# Altium footprint library Capasitors.PcbLib: 66 footprints (part 4 of 5)
Each footprint in its own frame and in the unit in brackets; x right, y up, seen from the top. Pads: shape width x height; smd on the part's side, far side on the other; paste and mask are expansions set on the pad; w line width, h text height; cw(c..) or ccw(c..) is an arc to the next point about the centre after c.
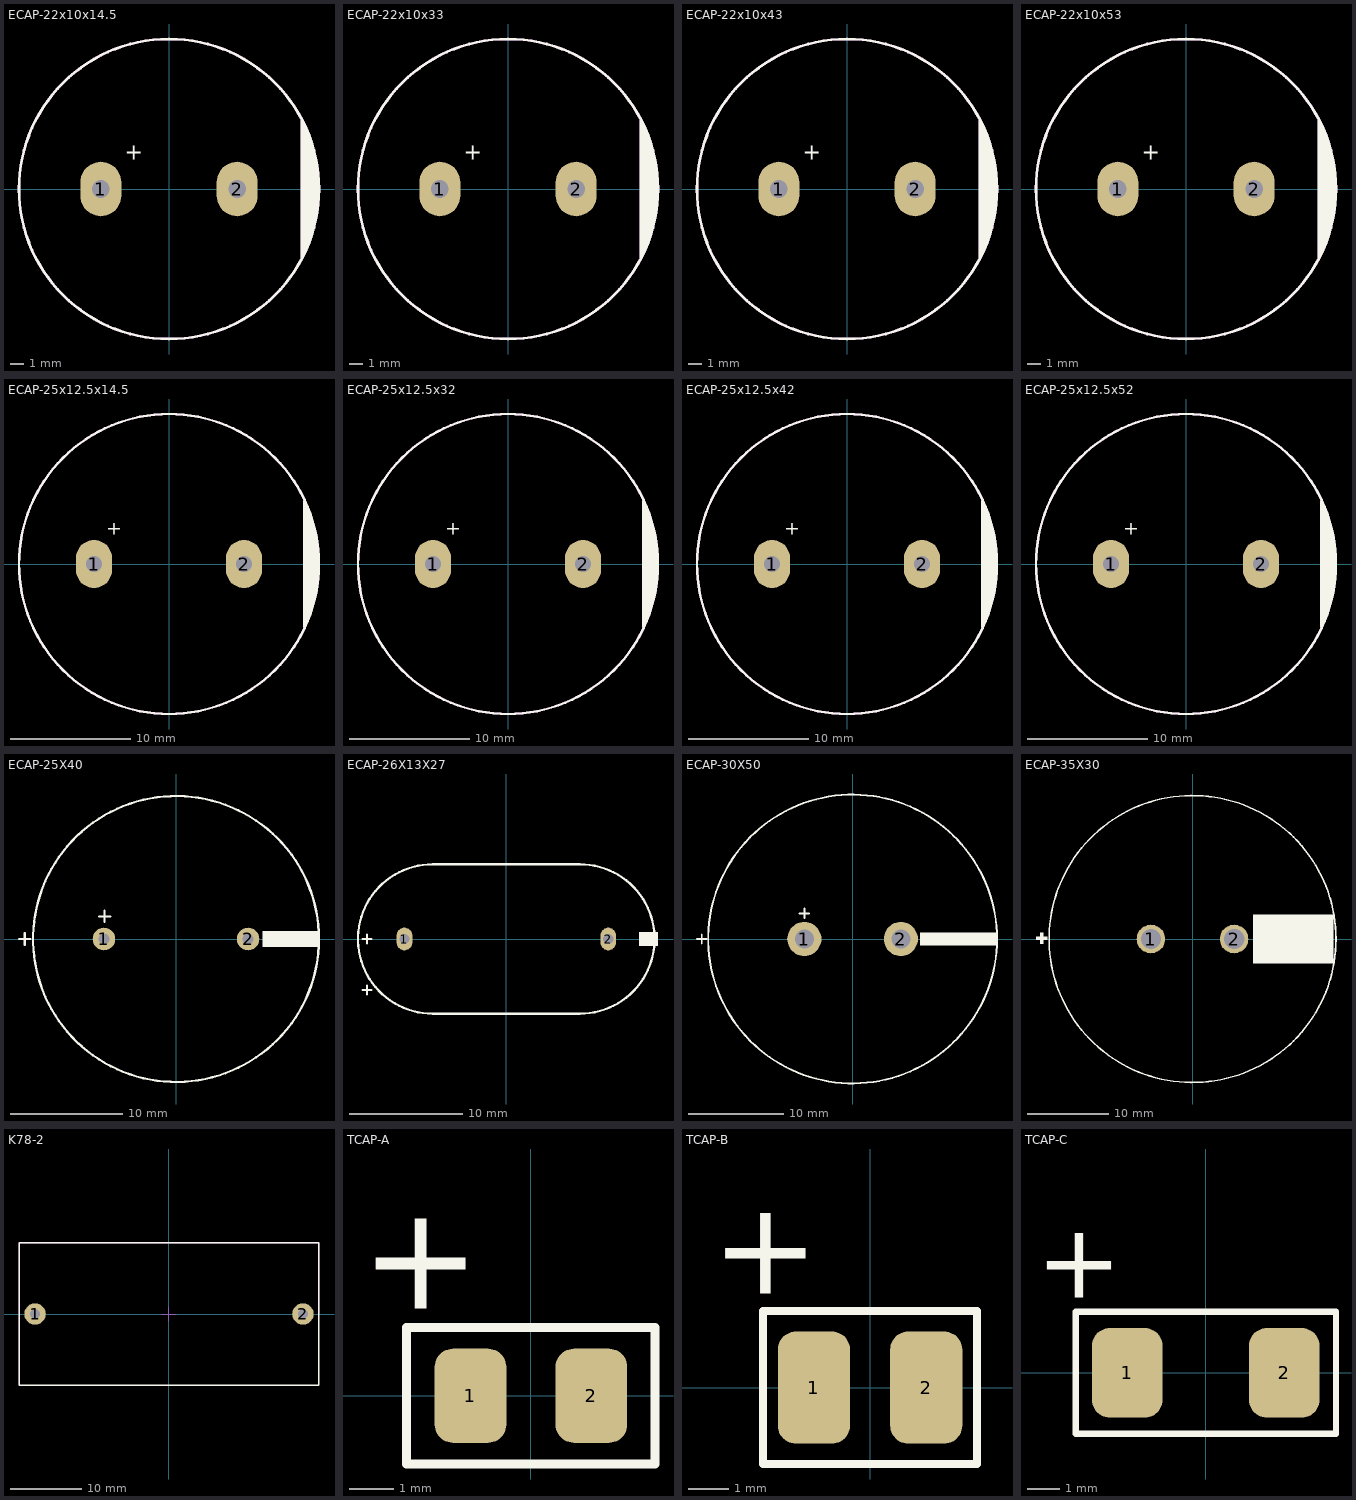
[diagram p3: the footprints below, top view; thin cyan lines are the x and y axes]

## ECAP-22x10x14.5 [mm] "16MM Diameter, 7.5MM Lead Spacing Aluminium Capacitor"
height 14.5
pads (2):
  oval 3x4 hole 1.3: 1(-5,0) 2(5,0)
Top Overlay:
  circle w0.2: c0,0 r11
  region: 9.75,-5 9.75,5 10.75,2.5 11,1 11,0 11,-1 10.5,-3.25
  lines w0.2: 9.75,-5 9.75,5
  text "+" at -3.25,1.75 h2
Mechanical 13:
  circle w0.2: c0,0 r11
  lines w0.2: 9.75,-5 9.75,5
3D body "CAP ALTH D-22MM L-10MM H-14.5MM.STEP": height 14.7, standoff -3, extent -11,-11 11,11

## ECAP-22x10x33 [mm] "16MM Diameter, 7.5MM Lead Spacing Aluminium Capacitor"
height 33
pads (2):
  oval 3x4 hole 1.3: 1(-5,0) 2(5,0)
Top Overlay:
  circle w0.2: c0,0 r11
  region: 9.75,-5 9.75,5 10.75,2.5 11,1 11,0 11,-1 10.5,-3.25
  lines w0.2: 9.75,-5 9.75,5
  text "+" at -3.25,1.75 h2
Mechanical 13:
  circle w0.2: c0,0 r11
  lines w0.2: 9.75,-5 9.75,5
3D body "CAP ALTH D-22MM L-10MM H-33MM.STEP": height 33.2, standoff -3, extent -11,-10.995 11,10.995

## ECAP-22x10x43 [mm] "16MM Diameter, 7.5MM Lead Spacing Aluminium Capacitor"
height 43
pads (2):
  oval 3x4 hole 1.3: 1(-5,0) 2(5,0)
Top Overlay:
  circle w0.2: c0,0 r11
  region: 9.75,-5 9.75,5 10.75,2.5 11,1 11,0 11,-1 10.5,-3.25
  lines w0.2: 9.75,-5 9.75,5
  text "+" at -3.25,1.75 h2
Mechanical 13:
  circle w0.2: c0,0 r11
  lines w0.2: 9.75,-5 9.75,5
3D body "CAP ALTH D-22MM L-10MM H-43MM.STEP": height 43.2, standoff -3, extent -11,-10.999 11,10.999

## ECAP-22x10x53 [mm] "16MM Diameter, 7.5MM Lead Spacing Aluminium Capacitor"
height 53
pads (2):
  oval 3x4 hole 1.3: 1(-5,0) 2(5,0)
Top Overlay:
  circle w0.2: c0,0 r11
  region: 9.75,-5 9.75,5 10.75,2.5 11,1 11,0 11,-1 10.5,-3.25
  lines w0.2: 9.75,-5 9.75,5
  text "+" at -3.25,1.75 h2
Mechanical 13:
  circle w0.2: c0,0 r11
  lines w0.2: 9.75,-5 9.75,5
3D body "CAP ALTH D-22MM L-10MM H-53MM.STEP": height 53.2, standoff -3, extent -11,-11 11,11

## ECAP-25x12.5x14.5 [mm] "16MM Diameter, 7.5MM Lead Spacing Aluminium Capacitor"
height 14.5
pads (2):
  oval 3x4 hole 1.3: 1(-6.25,0) 2(6.25,0)
Top Overlay:
  circle w0.2: c0,0 r12.5
  region: 11.25,-5.25 11.25,5.375 12,3.5 12.25,2.5 12.5,1 12.5,0 12.5,-1 12,-3.5
  lines w0.2: 11.25,-5.25 11.25,5.25
  text "+" at -5.25,2 h2
Mechanical 13:
  circle w0.2: c0,0 r12.5
  lines w0.2: 11.25,-5.25 11.25,5.25
3D body "CAP ALTH D-25MM L-12.5MM H-14.5MM.STEP": height 14.7, standoff -3, extent -12.5,-12.5 12.5,12.5

## ECAP-25x12.5x32 [mm] "16MM Diameter, 7.5MM Lead Spacing Aluminium Capacitor"
height 32
pads (2):
  oval 3x4 hole 1.3: 1(-6.25,0) 2(6.25,0)
Top Overlay:
  circle w0.2: c0,0 r12.5
  region: 11.25,-5.25 11.25,5.375 12,3.5 12.25,2.5 12.5,1 12.5,0 12.5,-1 12,-3.5
  lines w0.2: 11.25,-5.25 11.25,5.25
  text "+" at -5.25,2 h2
Mechanical 13:
  circle w0.2: c0,0 r12.5
  lines w0.2: 11.25,-5.25 11.25,5.25
3D body "CAP ALTH D-25MM L-12.5MM H-32MM.STEP": height 32.2, standoff -3, extent -12.5,-12.498 12.5,12.499

## ECAP-25x12.5x42 [mm] "16MM Diameter, 7.5MM Lead Spacing Aluminium Capacitor"
height 42
pads (2):
  oval 3x4 hole 1.3: 1(-6.25,0) 2(6.25,0)
Top Overlay:
  circle w0.2: c0,0 r12.5
  region: 11.25,-5.25 11.25,5.375 12,3.5 12.25,2.5 12.5,1 12.5,0 12.5,-1 12,-3.5
  lines w0.2: 11.25,-5.25 11.25,5.25
  text "+" at -5.25,2 h2
Mechanical 13:
  circle w0.2: c0,0 r12.5
  lines w0.2: 11.25,-5.25 11.25,5.25
3D body "CAP ALTH D-25MM L-12.5MM H-42MM.STEP": height 42.2, standoff -3, extent -12.5,-12.496 12.5,12.496

## ECAP-25x12.5x52 [mm] "16MM Diameter, 7.5MM Lead Spacing Aluminium Capacitor"
height 52
pads (2):
  oval 3x4 hole 1.3: 1(-6.25,0) 2(6.25,0)
Top Overlay:
  circle w0.2: c0,0 r12.5
  region: 11.25,-5.25 11.25,5.375 12,3.5 12.25,2.5 12.5,1 12.5,0 12.5,-1 12,-3.5
  lines w0.2: 11.25,-5.25 11.25,5.25
  text "+" at -5.25,2 h2
Mechanical 13:
  circle w0.2: c0,0 r12.5
  lines w0.2: 11.25,-5.25 11.25,5.25
3D body "CAP ALTH D-25MM L-12.5MM H-52MM.STEP": height 52.2, standoff -3, extent -12.5,-12.499 12.5,12.499

## ECAP-25X40 [mm] "Cap Elec, D25.0X40.0H pitch: 12.8mm, RB.5/1"
pads (2):
  round 2 hole 1: 1(-6.4,0) 2(6.4,0)
Top Overlay:
  circle w0.2: c0,0 r12.7
  rectangle: 7.66,-0.7 12.7,0.7
  lines w0.2: -13.95,0 -12.95,0 ; -13.45,-0.5 -13.45,0.5 ; -6.85,2 -5.85,2 ; -6.35,1.5 -6.35,2.5
3D body "User Library-CE_R530_D1000_H1750.step": height 42.2, standoff -2.5, extent -12.7,-12.7 12.7,12.7

## ECAP-26X13X27 [mm] "Cap Elec, 26X13X27mm, 18mm pitch"
height 27
pads (2):
  oval 1.4x2 hole 0.9: 1(-9,0) 2(9,0)
Top Overlay:
  rectangle: 11.7,-0.6 13.4,0.6
  lines w0.2: -12.7,-4.5 -11.9,-4.5 ; -12.7,0 -11.9,0 ; -12.3,-4.9 -12.3,-4.1 ; -12.3,-0.4 -12.3,0.4 ; -6.5,-6.6 cw(c-6.5,0) -6.5,6.6 6.5,6.6 cw(c6.5,0) 6.5,-6.6 -6.5,-6.6
3D body: height 0, standoff -2, extent -9.298,-0.299 -8.7,0.299
3D body: height 27, standoff 0, extent -7,-6.5 7,6.5
3D body: height 27, standoff 0, extent 0,-6.5 13,6.5
3D body: height 27, standoff 0, extent -13,-6.5 0,6.5
3D body: height 0, standoff -2, extent 8.7,-0.299 9.298,0.3

## ECAP-30X50 [mm] "Cap Elec, D30.0X50.0H pitch: 10.0mm"
pads (2):
  round 3.6 hole 2: 1(-5.08,0) 2(5.08,0)
Top Overlay:
  circle w0.2: c0,0 r15.2
  rectangle: 7.1,-0.7 15.2,0.7
  lines w0.2: -16.38,0 -15.38,0 ; -15.88,-0.5 -15.88,0.5 ; -5.58,2.7 -4.58,2.7 ; -5.08,2.2 -5.08,3.2
3D body "User Library-Assy_CE_R400_D1200_H2000.STEP": height 50.8, standoff -6.89, extent -15.24,-15.2 15.24,15.28

## ECAP-35X30 [mm] "Cap Elec, D35.0X30.0H pitch: 10.0mm, 470uF/400V, RB.44/1.3"
height 33
pads (2):
  round 3.5 / inner round 3.5 / far side oval 3.5x5.5 hole 2.5: 1(-5.1,0) 2(5.1,0)
Top Overlay:
  circle w0.2: c0,0 r17.6
  region: -18.3,-0.6 -18.3,0.8 -18.7,0.8 -18.7,-0.6
  rectangle: -19.2,-0.1 -17.8,0.3
  rectangle: 7.4,-3 17.3,3
3D body "User Library-el_cap_470uF-400V.step": height 46.5, standoff -3.7, extent -17.5,-17.5 17.5,17.5

## K78-2 [mm]
pads (2):
  round 3 hole 1.4: 1(-18.75,0) 2(18.75,0)
Top Overlay:
  lines w0.2: -21,-10 -21,10 21,10 21,-10 -21,-10
Top Courtyard:
  lines w0.1: -21,-10 21,-10 21,10 -21,10 -21,-10
3D:
  lines w0.1: -1,0 1,0 ; 0,-1 0,1 ; -21,-10 21,-10 21,10 -21,10 -21,-10
3D body "B32676.STEP": height 39.55, standoff -3, extent -21,-10 21,10

## TCAP-A [mm] "К53-68; К53-46 // Масса 0,05 г// UMI"
height 1.8
pads (2):
  rrect50% 1.6x2.1 smd: 1(-1.35,0) 2(1.35,0)
Top Overlay:
  lines w0.2: -2.775,-1.524 -2.775,1.524 2.775,1.524 2.775,-1.524 -2.775,-1.524
  text "+" at -3.8,1.175 h4
3D body "TANTAL_A.STEP": height 1.61, standoff 0, extent -1.595,-0.8 1.595,0.8

## TCAP-B [mm] "К53-68; К53-46 // Масса 0,06 г// UMI"
height 2.1
pads (2):
  rrect50% 1.8x2.8 smd: 1(-1.4,0) 2(1.4,0)
Top Overlay:
  lines w0.2: -2.667,-1.905 -2.667,1.905 2.667,1.905 2.667,-1.905 -2.667,-1.905
  text "+" at -3.95,1.575 h4
3D body "TANTAL_B.STEP": height 1.91, standoff 0, extent -1.746,-1.4 1.746,1.4

## TCAP-C [mm] "К53-68; К53-46 // Масса 0,3 г// UMI"
height 2.8
pads (2):
  rrect50% 2.2x2.8 smd: 1(-2.45,0) 2(2.45,0)
Top Overlay:
  lines w0.2: -4.064,-1.905 4.064,-1.905 4.064,1.905 -4.064,1.905 -4.064,-1.905
  text "+" at -5.3,1.575 h4
3D body "TANTAL_C.STEP": height 2.51, standoff 0, extent -2.997,-1.6 2.997,1.6